# Altium footprint library 20021121-00012C4LF.PcbLib: 1 footprints
Each footprint in its own frame and in the unit in brackets; x right, y up, seen from the top. Pads: shape width x height; smd on the part's side, far side on the other; paste and mask are expansions set on the pad; w line width, h text height; cw(c..) or ccw(c..) is an arc to the next point about the centre after c.
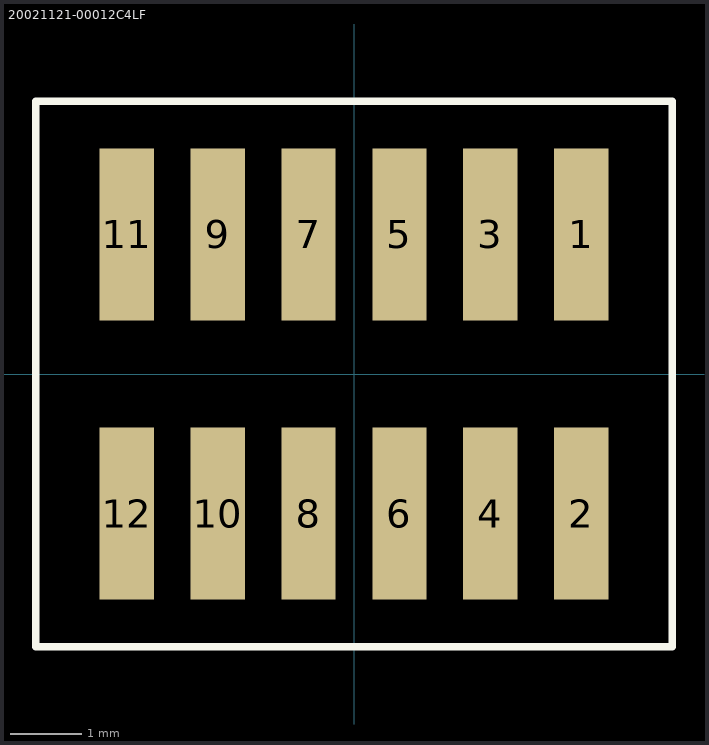
[diagram p0: the footprint, top view; thin cyan lines are the x and y axes]

## 20021121-00012C4LF [mm]
pads (12):
  rect 0.76x2.4 smd: 1(3.175,1.95) 2(3.175,-1.95) 3(1.905,1.95) 4(1.905,-1.95) 5(0.635,1.95) 6(0.635,-1.95) 7(-0.635,1.95) 8(-0.635,-1.95) 9(-1.905,1.95) 10(-1.905,-1.95) 11(-3.175,1.95) 12(-3.175,-1.95)
Top Overlay:
  lines w0.1: -4.445,-3.81 4.445,-3.81 4.445,3.81 -4.445,3.81 -4.445,-3.81
3D body: height 4.5, standoff 0, extent -3.81,-2.75 3.81,2.75